# EAGLE library part 6871XX183622_687140183622 (library 68611414422)
WR-FPC 0.50 mm SMT ZIF Horizontal Top Contact Low Profile KIND PROPERTIES Pitch 0.5 mm MATERIAL PROPERTIES Insulator Material LCP Contact Material Phosphor Bronze Contact Plating 120 (µ") Tin over 30 (µ") Nickel Contact Type Stamped Solder Tabs Brass <https://www.we-online.com/catalog/media/o83990v209%20Family_WR-FPC_6871xx183622.jpg> Details see: https://www.we-online.com/catalog/en/FPC_0_5_SMT_ZIF_HORIZONTAL_TOP_CONTACT_LOW_PROFILE_6871xx183622/ Updated by Ella Wu 2020-08-26 2020(C) Wurth Elektronik
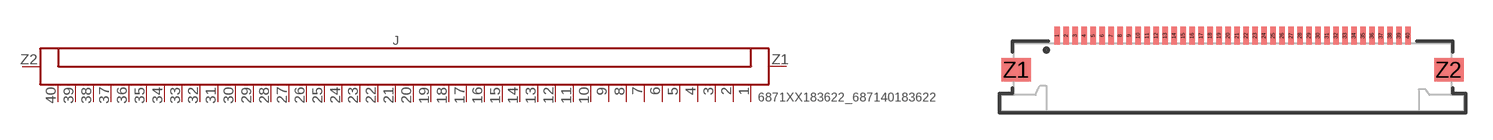
[diagram p115: symbol with the pads of 687140183622; footprint 687140183622]

Designator prefix J

## 6871XX183622_687140183622 (CONTACT-RESISTANCE: 30mOhm; DATASHEET-URL: https://www.we-online.com/catalog/datasheet/687140183622.pdf; IR: 0.4A; L: 25.7mm; PACKAGING: Tape and Reel; PART-NUMBER: 687140183622; PINS: 40; PITCH: 0.5mm; TYPE: Horizontal; VALUE: 687140183622; WORKING-VOLTAGE: 50V(AC))  [687140183622]
1  1  pas
2  2  pas
3  3  pas
4  4  pas
5  5  pas
6  6  pas
7  7  pas
8  8  pas
9  9  pas
10  10  pas
11  11  pas
12  12  pas
13  13  pas
14  14  pas
15  15  pas
16  16  pas
17  17  pas
18  18  pas
19  19  pas
20  20  pas
21  21  pas
22  22  pas
23  23  pas
24  24  pas
25  25  pas
26  26  pas
27  27  pas
28  28  pas
29  29  pas
30  30  pas
31  31  pas
32  32  pas
33  33  pas
34  34  pas
35  35  pas
36  36  pas
37  37  pas
38  38  pas
39  39  pas
40  40  pas
Z1  Z1  pas
Z2  Z2  pas

## Footprint 687140183622 (pad centres in mm)
WR-FPC 0.50 mm SMT ZIF Horizontal Top Contact Low Profile,40Pins
smd 0.3 x 1: 1 -9.75,2.3; 2 -9.25,2.3; 3 -8.75,2.3; 4 -8.25,2.3; 5 -7.75,2.3; 6 -7.25,2.3; 7 -6.75,2.3; 8 -6.25,2.3; 9 -5.75,2.3; 10 -5.25,2.3; 11 -4.75,2.3; 12 -4.25,2.3; 13 -3.75,2.3; 14 -3.25,2.3; 15 -2.75,2.3; 16 -2.25,2.3; 17 -1.75,2.3; 18 -1.25,2.3; 19 -0.75,2.3; 20 -0.25,2.3; 21 0.25,2.3; 22 0.75,2.3; 23 1.25,2.3; 24 1.75,2.3; 25 2.25,2.3; 26 2.75,2.3; 27 3.25,2.3; 28 3.75,2.3; 29 4.25,2.3; 30 4.75,2.3; 31 5.25,2.3; 32 5.75,2.3; 33 6.25,2.3; 34 6.75,2.3; 35 7.25,2.3; 36 7.75,2.3; 37 8.25,2.3; 38 8.75,2.3; 39 9.25,2.3; 40 9.75,2.3
smd 1.65 x 1.3: Z1 -12.025,0.4; Z2 12.025,0.4